# Altium footprint library WS-ROSV.PcbLib: 12 footprints
Each footprint in its own frame and in the unit in brackets; x right, y up, seen from the top. Pads: shape width x height; smd on the part's side, far side on the other; paste and mask are expansions set on the pad; w line width, h text height; cw(c..) or ccw(c..) is an arc to the next point about the centre after c.
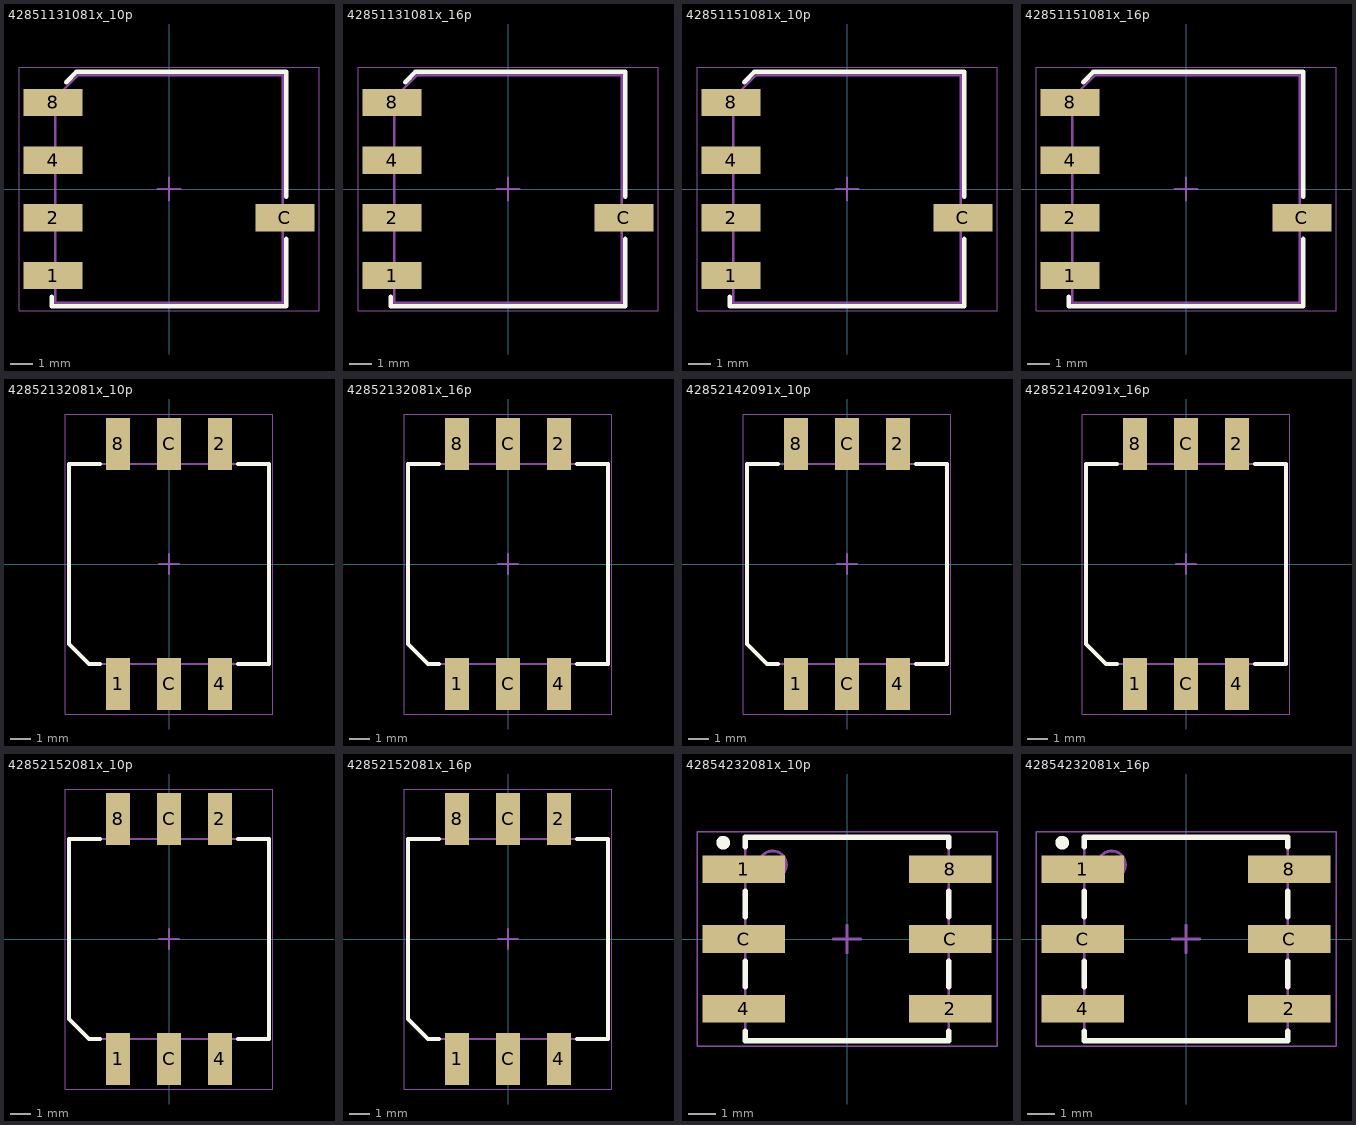
[diagram p0: the footprints below, top view; thin cyan lines are the x and y axes]

## 42851131081x_10p [mm] "Rotary Switch, SMT, body 10.00 x 10.00 mm"
height 6.8
pads (5):
  rect 2.6x1.2 smd: 1(-5.1,-3.81) 2(-5.1,-1.27) 4(-5.1,1.27) 8(-5.1,3.81) C(5.1,-1.27)
Top Overlay:
  lines w0.2: -5.15,-4.75 -5.15,-5.15 5.15,-5.15 5.15,-2.2 ; -4.522,4.703 -4.075,5.15 5.15,5.15 5.15,-0.34 ; -4,5.15 -4,5.15
Top Assembly:
  lines w0.1: -5,-4.08 -6,-4.08 -6,-3.54 -5,-3.54 ; -5,-1.54 -6,-1.54 -6,-1 -5,-1 ; -5,1 -6,1 -6,1.54 -5,1.54 ; -5,3.54 -6,3.54 -6,4.08 -5,4.08 ; 5,-1.54 6,-1.54 6,-1 5,-1 ; -5,-5 5,-5 5,5 -4,5 -5,4 -5,-5
Top Designator:
  text ".Designator" at -3.647,-0.357 h1
Top Courtyard:
  lines w0.05: -6.6,-5.35 6.6,-5.35 6.6,5.35 -6.6,5.35 -6.6,-5.35
Top Component Center:
  lines w0.1: -0.5,0 0.5,0 ; 0,-0.5 0,0.5
3D body "428511310810.stp": height 6.82, standoff 0.02, extent -6,-5 6,5

## 42851131081x_16p [mm] "Rotary Switch, SMT, body 10.00 x 10.00 mm"
height 6.8
pads (5):
  rect 2.6x1.2 smd: 1(-5.1,-3.81) 2(-5.1,-1.27) 4(-5.1,1.27) 8(-5.1,3.81) C(5.1,-1.27)
Top Overlay:
  lines w0.2: -5.15,-4.75 -5.15,-5.15 5.15,-5.15 5.15,-2.2 ; -4.522,4.703 -4.075,5.15 5.15,5.15 5.15,-0.34 ; -4,5.15 -4,5.15
Top Assembly:
  lines w0.1: -5,-4.08 -6,-4.08 -6,-3.54 -5,-3.54 ; -5,-1.54 -6,-1.54 -6,-1 -5,-1 ; -5,1 -6,1 -6,1.54 -5,1.54 ; -5,3.54 -6,3.54 -6,4.08 -5,4.08 ; 5,-1.54 6,-1.54 6,-1 5,-1 ; -5,-5 -5,4 -4,5 5,5 5,-5 -5,-5
Top Designator:
  text ".Designator" at -3.647,-0.357 h1
Top Courtyard:
  lines w0.05: -6.6,-5.35 -6.6,5.35 6.6,5.35 6.6,-5.35 -6.6,-5.35
Top Component Center:
  lines w0.1: -0.5,0 0.5,0 ; 0,-0.5 0,0.5
3D body "428511310816.stp": height 6.82, standoff 0.02, extent -6,-5 6,5

## 42851151081x_10p [mm] "Rotary Switch, SMT, body 10.00 x 10.00 mm"
height 6.8
pads (5):
  rect 2.6x1.2 smd: 1(-5.1,-3.81) 2(-5.1,-1.27) 4(-5.1,1.27) 8(-5.1,3.81) C(5.1,-1.27)
Top Overlay:
  lines w0.2: -5.15,-4.75 -5.15,-5.15 5.15,-5.15 5.15,-2.2 ; -4.522,4.703 -4.075,5.15 5.15,5.15 5.15,-0.34 ; -4,5.15 -4,5.15
Top Assembly:
  lines w0.1: -5,-4.08 -6,-4.08 -6,-3.54 -5,-3.54 ; -5,-1.54 -6,-1.54 -6,-1 -5,-1 ; -5,1 -6,1 -6,1.54 -5,1.54 ; -5,3.54 -6,3.54 -6,4.08 -5,4.08 ; 5,-1.54 6,-1.54 6,-1 5,-1 ; -5,-5 -5,4 -4,5 5,5 5,-5 -5,-5
Top Designator:
  text ".Designator" at -3.647,-0.357 h1
Top Courtyard:
  lines w0.05: -6.6,-5.35 6.6,-5.35 6.6,5.35 -6.6,5.35 -6.6,-5.35
Top Component Center:
  lines w0.1: -0.5,0 0.5,0 ; 0,-0.5 0,0.5
3D body "428511510810.stp": height 6.82, standoff 0.02, extent -6,-5 6,5

## 42851151081x_16p [mm] "Rotary Switch, SMT, body 10.00 x 10.00 mm"
height 6.8
pads (5):
  rect 2.6x1.2 smd: 1(-5.1,-3.81) 2(-5.1,-1.27) 4(-5.1,1.27) 8(-5.1,3.81) C(5.1,-1.27)
Top Overlay:
  lines w0.2: -5.15,-4.75 -5.15,-5.15 5.15,-5.15 5.15,-2.2 ; -4.522,4.703 -4.075,5.15 5.15,5.15 5.15,-0.34 ; -4,5.15 -4,5.15
Top Assembly:
  lines w0.1: -5,-4.08 -6,-4.08 -6,-3.54 -5,-3.54 ; -5,-1.54 -6,-1.54 -6,-1 -5,-1 ; -5,1 -6,1 -6,1.54 -5,1.54 ; -5,3.54 -6,3.54 -6,4.08 -5,4.08 ; 5,-1.54 6,-1.54 6,-1 5,-1 ; -5,-5 -5,4 -4,5 5,5 5,-5 -5,-5
Top Designator:
  text ".Designator" at -3.647,-0.357 h1
Top Courtyard:
  lines w0.05: -6.6,-5.35 6.6,-5.35 6.6,5.35 -6.6,5.35 -6.6,-5.35
Top Component Center:
  lines w0.1: -0.5,0 0.5,0 ; 0,-0.5 0,0.5
3D body "428511510816.stp": height 6.82, standoff 0.02, extent -6,-5 6,5

## 42852132081x_10p [mm] "10x10 mm washable SMD arrow type, 10 position"
height 6.8
pads (6):
  rect 1.2x2.6 smd: 1(-2.54,-6) 2(2.54,6) 4(2.54,-6) 8(-2.54,6) C(0,-6) C(0,6)
Top Overlay:
  lines w0.2: -3.45,-5 -4,-5 -5,-4 -5,5 -3.45,5 ; 3.45,-5 5,-5 5,5 3.45,5
Top Assembly:
  lines w0.1: -2.81,-5 -2.81,-6 -2.27,-6 -2.27,-5 ; -2.81,5 -2.81,6 -2.27,6 -2.27,5 ; -0.27,-5 -0.27,-6 0.27,-6 0.27,-5 ; -0.27,5 -0.27,6 0.27,6 0.27,5 ; 2.27,-5 2.27,-6 2.81,-6 2.81,-5 ; 2.27,5 2.27,6 2.81,6 2.81,5 ; -5,-4 -5,5 5,5 5,-5 -4,-5 -5,-4
Top Designator:
  text ".Designator" at -3.647,-0.357 h1
Top Courtyard:
  lines w0.05: -5.2,-7.5 5.2,-7.5 5.2,7.5 -5.2,7.5 -5.2,-7.5
Top Component Center:
  lines w0.1: -0.5,0 0.5,0 ; 0,-0.5 0,0.5
3D body "42852132081x_10_Pos.stp": height 6.8, standoff 0, extent -5,-6 5,6

## 42852132081x_16p [mm] "10x10 mm washable SMD arrow type, 16 position"
height 6.8
pads (6):
  rect 1.2x2.6 smd: 1(-2.54,-6) 2(2.54,6) 4(2.54,-6) 8(-2.54,6) C(0,-6) C(0,6)
Top Overlay:
  lines w0.2: -3.45,-5 -4,-5 -5,-4 -5,5 -3.45,5 ; 3.45,-5 5,-5 5,5 3.45,5
Top Assembly:
  lines w0.1: -2.81,-5 -2.81,-6 -2.27,-6 -2.27,-5 ; -2.81,5 -2.81,6 -2.27,6 -2.27,5 ; -0.27,-5 -0.27,-6 0.27,-6 0.27,-5 ; -0.27,5 -0.27,6 0.27,6 0.27,5 ; 2.27,-5 2.27,-6 2.81,-6 2.81,-5 ; 2.27,5 2.27,6 2.81,6 2.81,5 ; -5,-4 -4,-5 5,-5 5,5 -5,5 -5,-4
Top Designator:
  text ".Designator" at -3.647,-0.357 h1
Top Courtyard:
  lines w0.05: -5.2,-7.5 5.2,-7.5 5.2,7.5 -5.2,7.5 -5.2,-7.5
Top Component Center:
  lines w0.1: -0.5,0 0.5,0 ; 0,-0.5 0,0.5
3D body "42852132081x_16_Pos.stp": height 6.8, standoff 0, extent -5,-6 5,6

## 42852142091x_10p [mm] "10x10 mm washable SMD shaft type, 10 position"
height 13.8
pads (6):
  rect 1.2x2.6 smd: 1(-2.54,-6) 2(2.54,6) 4(2.54,-6) 8(-2.54,6) C(0,-6) C(0,6)
Top Overlay:
  lines w0.2: -3.45,-5 -4,-5 -5,-4 -5,5 -3.45,5 ; 3.45,-5 5,-5 5,5 3.45,5
Top Assembly:
  lines w0.1: -2.81,-5 -2.81,-6 -2.27,-6 -2.27,-5 ; -2.81,5 -2.81,6 -2.27,6 -2.27,5 ; -0.27,-5 -0.27,-6 0.27,-6 0.27,-5 ; -0.27,5 -0.27,6 0.27,6 0.27,5 ; 2.27,-5 2.27,-6 2.81,-6 2.81,-5 ; 2.27,5 2.27,6 2.81,6 2.81,5 ; -5,-4 -5,5 5,5 5,-5 -4,-5 -5,-4
Top Designator:
  text ".Designator" at -3.647,-0.357 h1
Top Courtyard:
  lines w0.05: -5.2,-7.5 -5.2,7.5 5.2,7.5 5.2,-7.5 -5.2,-7.5
Top Component Center:
  lines w0.1: -0.5,0 0.5,0 ; 0,-0.5 0,0.5
3D body "42852142091x_10_Pos.stp": height 14.1, standoff 0, extent -5,-6 5,6

## 42852142091x_16p [mm] "10x10 mm washable SMD shaft type, 16 position"
height 13.8
pads (6):
  rect 1.2x2.6 smd: 1(-2.54,-6) 2(2.54,6) 4(2.54,-6) 8(-2.54,6) C(0,-6) C(0,6)
Top Overlay:
  lines w0.2: -3.45,-5 -4,-5 -5,-4 -5,5 -3.45,5 ; 3.45,-5 5,-5 5,5 3.45,5
Top Assembly:
  lines w0.1: -2.81,-5 -2.81,-6 -2.27,-6 -2.27,-5 ; -2.81,5 -2.81,6 -2.27,6 -2.27,5 ; -0.27,-5 -0.27,-6 0.27,-6 0.27,-5 ; -0.27,5 -0.27,6 0.27,6 0.27,5 ; 2.27,-5 2.27,-6 2.81,-6 2.81,-5 ; 2.27,5 2.27,6 2.81,6 2.81,5 ; -5,-4 -5,5 5,5 5,-5 -4,-5 -5,-4
Top Designator:
  text ".Designator" at -3.647,-0.357 h1
Top Courtyard:
  lines w0.05: -5.2,-7.5 -5.2,7.5 5.2,7.5 5.2,-7.5 -5.2,-7.5
Top Component Center:
  lines w0.1: -0.5,0 0.5,0 ; 0,-0.5 0,0.5
3D body "42852142091x_16_Pos.stp": height 14.1, standoff 0, extent -5,-6 5,6

## 42852152081x_10p [mm] "10x10 mm washable SMD cross type, 10 position"
height 6.8
pads (6):
  rect 1.2x2.6 smd: 1(-2.54,-6) 2(2.54,6) 4(2.54,-6) 8(-2.54,6) C(0,-6) C(0,6)
Top Overlay:
  lines w0.2: -3.45,-5 -4,-5 -5,-4 -5,5 -3.45,5 ; 3.45,-5 5,-5 5,5 3.45,5
Top Assembly:
  lines w0.1: -2.81,-5 -2.81,-6 -2.27,-6 -2.27,-5 ; -2.81,5 -2.81,6 -2.27,6 -2.27,5 ; -0.27,-5 -0.27,-6 0.27,-6 0.27,-5 ; -0.27,5 -0.27,6 0.27,6 0.27,5 ; 2.27,-5 2.27,-6 2.81,-6 2.81,-5 ; 2.27,5 2.27,6 2.81,6 2.81,5 ; -5,-4 -5,5 5,5 5,-5 -4,-5 -5,-4
Top Designator:
  text ".Designator" at -3.647,-0.357 h1
Top Courtyard:
  lines w0.05: -5.2,-7.5 -5.2,7.5 5.2,7.5 5.2,-7.5 -5.2,-7.5
Top Component Center:
  lines w0.1: -0.5,0 0.5,0 ; 0,-0.5 0,0.5
3D body "42852152081x_10_Pos.stp": height 6.8, standoff 0, extent -5,-6 5,6

## 42852152081x_16p [mm] "10x10 mm washable SMD cross type, 16 position"
height 6.8
pads (6):
  rect 1.2x2.6 smd: 1(-2.54,-6) 2(2.54,6) 4(2.54,-6) 8(-2.54,6) C(0,-6) C(0,6)
Top Overlay:
  lines w0.2: -3.45,-5 -4,-5 -5,-4 -5,5 -3.45,5 ; 3.45,-5 5,-5 5,5 3.45,5
Top Assembly:
  lines w0.1: -2.81,-5 -2.81,-6 -2.27,-6 -2.27,-5 ; -2.81,5 -2.81,6 -2.27,6 -2.27,5 ; -0.27,-5 -0.27,-6 0.27,-6 0.27,-5 ; -0.27,5 -0.27,6 0.27,6 0.27,5 ; 2.27,-5 2.27,-6 2.81,-6 2.81,-5 ; 2.27,5 2.27,6 2.81,6 2.81,5 ; -5,-4 -5,5 5,5 5,-5 -4,-5 -5,-4
Top Designator:
  text ".Designator" at -3.647,-0.357 h1
Top Courtyard:
  lines w0.05: -5.2,-7.5 -5.2,7.5 5.2,7.5 5.2,-7.5 -5.2,-7.5
Top Component Center:
  lines w0.1: -0.5,0 0.5,0 ; 0,-0.5 0,0.5
3D body "42852152081x_16_Pos.stp": height 6.8, standoff 0, extent -5,-6 5,6

## 42854232081x_10p [mm] "7x7 mm washable SMD arrow type, 10 position"
height 3.85
pads (6):
  rect 3x1 smd: 1(-3.75,2.54) 2(3.75,-2.54) 4(-3.75,-2.54) 8(3.75,2.54) C(-3.75,0) C(3.75,0)
Top Overlay:
  circle w0.25: c-4.5,3.5 r0.125
  lines w0.2: -3.7,-3.35 -3.7,-3.7 3.7,-3.7 3.7,-3.35 ; -3.7,-1.73 -3.7,-0.8 ; -3.7,0.8 -3.7,1.73 ; -3.7,3.35 -3.7,3.7 3.7,3.7 3.7,3.35 ; 3.7,-1.73 3.7,-0.8 ; 3.7,0.8 3.7,1.73
Top Assembly:
  circle w0.1: c-2.7,2.7 r0.5
  lines w0.1: -3.7,-2.79 -4.75,-2.79 -4.75,-2.29 -3.7,-2.29 ; -3.7,-0.25 -4.75,-0.25 -4.75,0.25 -3.7,0.25 ; -3.7,2.29 -4.75,2.29 -4.75,2.79 -3.7,2.79 ; 3.7,-2.79 4.75,-2.79 4.75,-2.29 3.7,-2.29 ; 3.7,-0.25 4.75,-0.25 4.75,0.25 3.7,0.25 ; 3.7,2.29 4.75,2.29 4.75,2.79 3.7,2.79 ; -3.7,-3.7 3.7,-3.7 3.7,3.7 -3.7,3.7 -3.7,-3.7
Top Designator:
  text ".Designator" at -3.647,-0.357 h1
Top Courtyard:
  lines w0.05: -5.45,-3.9 5.45,-3.9 5.45,3.9 -5.45,3.9 -5.45,-3.9
Top Component Center:
  lines w0.1: -0.5,0 0.5,0 ; 0,-0.5 0,0.5
3D body "42854232081x_10 Position.stp": height 3.85, standoff 0, extent -4.75,-3.7 4.75,3.7

## 42854232081x_16p [mm] "7x7 mm washable SMD arrow type, 16 position"
height 3.85
pads (6):
  rect 3x1 smd: 1(-3.75,2.54) 2(3.75,-2.54) 4(-3.75,-2.54) 8(3.75,2.54) C(-3.75,0) C(3.75,0)
Top Overlay:
  circle w0.25: c-4.5,3.5 r0.125
  lines w0.2: -3.7,-3.35 -3.7,-3.7 3.7,-3.7 3.7,-3.35 ; -3.7,-1.73 -3.7,-0.8 ; -3.7,0.8 -3.7,1.73 ; -3.7,3.35 -3.7,3.7 3.7,3.7 3.7,3.35 ; 3.7,-1.73 3.7,-0.8 ; 3.7,0.8 3.7,1.73
Top Assembly:
  circle w0.1: c-2.7,2.7 r0.5
  lines w0.1: -3.7,-2.79 -4.75,-2.79 -4.75,-2.29 -3.7,-2.29 ; -3.7,-0.25 -4.75,-0.25 -4.75,0.25 -3.7,0.25 ; -3.7,2.29 -4.75,2.29 -4.75,2.79 -3.7,2.79 ; 3.7,-2.79 4.75,-2.79 4.75,-2.29 3.7,-2.29 ; 3.7,-0.25 4.75,-0.25 4.75,0.25 3.7,0.25 ; 3.7,2.29 4.75,2.29 4.75,2.79 3.7,2.79 ; -3.7,-3.7 -3.7,3.7 3.7,3.7 3.7,-3.7 -3.7,-3.7
Top Designator:
  text ".Designator" at -3.647,-0.357 h1
Top Courtyard:
  lines w0.05: -5.45,-3.9 -5.45,3.9 5.45,3.9 5.45,-3.9 -5.45,-3.9
Top Component Center:
  lines w0.1: -0.5,0 0.5,0 ; 0,-0.5 0,0.5
3D body "42854232081x_16 Position.stp": height 3.85, standoff 0, extent -4.75,-3.7 4.75,3.7